# Altium schematic symbol library ADP3338AKCZ-3.3RL7 (3V3 LDO).SchLib: 1 symbol
Pins are listed as number, name and electrical type; pins without a type are passive.

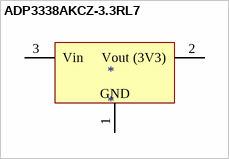
[diagram p0: symbol ADP3338AKCZ-3.3RL7]

## ADP3338AKCZ-3.3RL7
designator *
3.3V LDO Regulator; farnell: 1651283
footprint ADP3338AKCZ-3.3RL7 (3.3V LDO Regulator)
pins: 1 GND (power), 2 Vout (3V3) (power), 3 Vin (power)